# Altium schematic symbol library Comparator.SchLib: 62 symbols
Pins are listed as number, name and electrical type; pins without a type are passive.

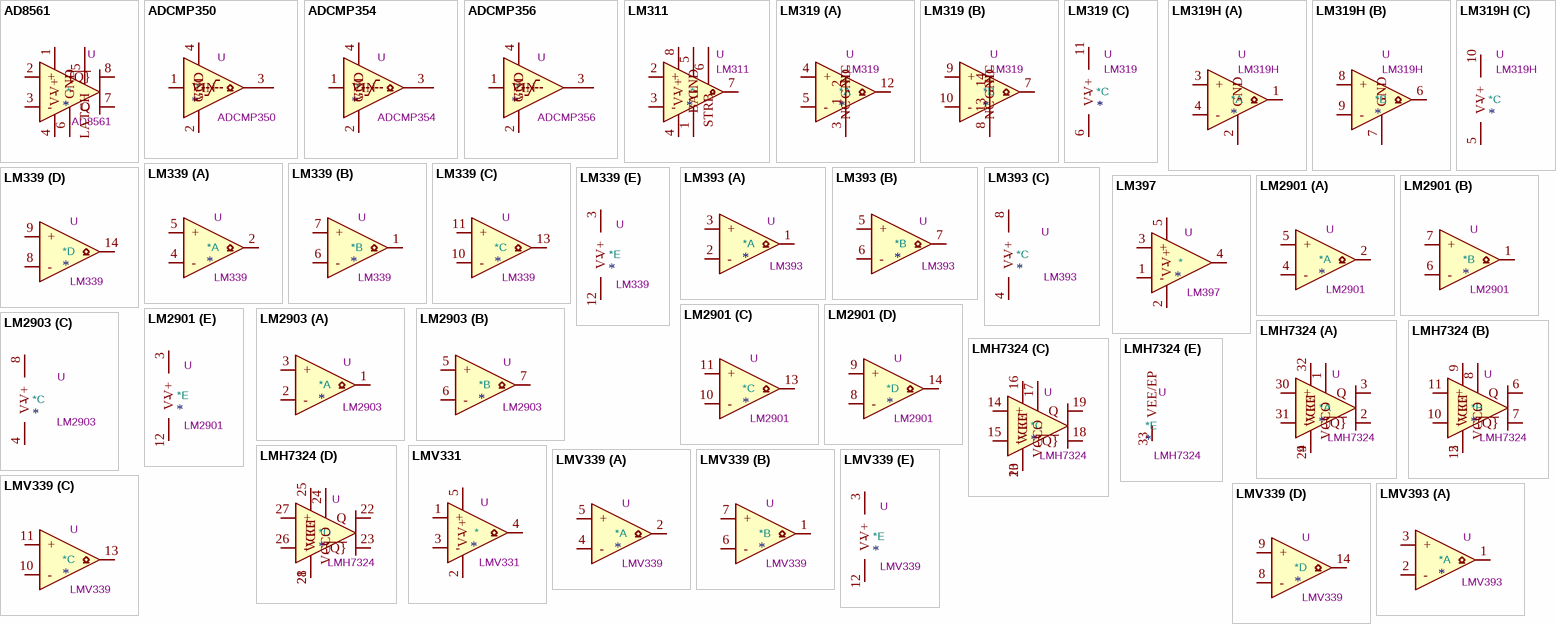
[diagram p0: symbols AD8561 to LMV393]

## AD8561
designator *  value AD8561  Reference: U
Ultrafast 7 ns Single Supply Comparator, DIP-8/SOIC-8/TSSOP-8; ki_keywords: cmp complementary push-pull; ki_fp_filters: SOIC*3.9x4.9mm*P1.27mm* TSSOP*4.4x3mm*P0.65mm* DIP*W7.62mm*; Datasheet: https://www.analog.com/media/en/technical-documentation/data-sheets/ad8561.pdf; Description_: Ultrafast 7 ns Single Supply Comparator, DIP-8/SOIC-8/TSSOP-8
pins: 1 V+, 2 +, 3 -, 4 V-, 5 LATCH, 6 GND, 7 Q, 8 ~{{Q}}

## ADCMP350
designator *  value ADCMP350  Reference: U
Single-input comparator, internal 0.6V reference, Active-Low Open-Drain output, KS-4; ki_keywords: cmp collector; ki_fp_filters: Analog*KS?4*; Footprint: Package_TO_SOT_SMD:Analog_KS-4; Datasheet: https://www.analog.com/media/en/technical-documentation/data-sheets/ADCMP350_354_356.pdf; Description_: Single-input comparator, internal 0.6V reference, Active-Low Open-Drain output, KS-4
pins: 1 VIN, 2 GND, 3, 4 VCC

## ADCMP354
designator *  value ADCMP354  Reference: U
Single-input comparator, internal 0.6V reference, Active-High Open-Drain output, KS-4; ki_keywords: cmp collector; ki_fp_filters: Analog*KS?4*; Footprint: Package_TO_SOT_SMD:Analog_KS-4; Datasheet: https://www.analog.com/media/en/technical-documentation/data-sheets/ADCMP350_354_356.pdf; Description_: Single-input comparator, internal 0.6V reference, Active-High Open-Drain output, KS-4
pins: 1 VIN, 2 GND, 3, 4 VCC

## ADCMP356
designator *  value ADCMP356  Reference: U
Single-input comparator, internal 0.6V reference, Active-High Push-Pull output, KS-4; ki_keywords: cmp; ki_fp_filters: Analog*KS?4*; Footprint: Package_TO_SOT_SMD:Analog_KS-4; Datasheet: https://www.analog.com/media/en/technical-documentation/data-sheets/ADCMP350_354_356.pdf; Description_: Single-input comparator, internal 0.6V reference, Active-High Push-Pull output, KS-4
pins: 1 VIN, 2 GND, 3, 4 VCC

## LM311
designator *  value LM311  Reference: U
Voltage Comparator, DIP-8/SOIC-8; ki_keywords: cmp open collector; ki_fp_filters: SOIC*3.9x4.9mm*P1.27mm* DIP*W7.62mm*; Datasheet: https://www.st.com/resource/en/datasheet/lm311.pdf; Description_: Voltage Comparator, DIP-8/SOIC-8
pins: 1 GND, 2 +, 3 -, 4 V-, 5 BAL, 6 STRB, 7, 8 V+

## LM319
designator *  value LM319  Reference: U
High Speed Dual Comparator, DIP-14/SOIC-14; ki_keywords: cmp open collector; ki_fp_filters: SOIC*3.9x8.7mm*P1.27mm* DIP*W7.62mm*; Datasheet: http://www.ti.com/lit/ds/symlink/lm319-n.pdf; Description_: High Speed Dual Comparator, DIP-14/SOIC-14
part A pins: 1 NC, 2 NC, 3 GND, 4 +, 5 -, 12
part B pins: 7, 8 GND, 9 +, 10 -, 13 NC, 14 NC
part C pins: 6 V-, 11 V+

## LM319H
designator *  value LM319H  Reference: U
High Speed Dual Comparator, TO-100-10; ki_keywords: cmp open collector; ki_fp_filters: TO?100*; Footprint: Package_TO_SOT_THT:TO-100-10; Datasheet: http://www.ti.com/lit/ds/symlink/lm319-n.pdf; Description_: High Speed Dual Comparator, TO-100-10
part A pins: 1, 2 GND, 3 +, 4 -
part B pins: 6, 7 GND, 8 +, 9 -
part C pins: 5 V-, 10 V+

## LM339
designator *  value LM339  Reference: U
Quad Differential Comparators, SOIC-14/TSSOP-14; ki_keywords: cmp open collector; ki_fp_filters: SOIC*3.9x8.7mm*P1.27mm* TSSOP*4.4x5mm*P0.65mm*; Datasheet: https://www.st.com/resource/en/datasheet/lm139.pdf; Description_: Quad Differential Comparators, SOIC-14/TSSOP-14
part A pins: 2, 4 -, 5 +
part B pins: 1, 6 -, 7 +
part C pins: 10 -, 11 +, 13
part D pins: 8 -, 9 +, 14
part E pins: 3 V+, 12 V-

## LM393
designator *  value LM393  Reference: U
Low-Power, Low-Offset Voltage, Dual Comparators, DIP-8/SOIC-8/TO-99-8; ki_keywords: cmp open collector; ki_fp_filters: SOIC*3.9x4.9mm*P1.27mm* DIP*W7.62mm* SOP*5.28x5.23mm*P1.27mm* VSSOP*3x3mm*P0.65mm* TSSOP*4.4x3mm*P0.65mm*; Datasheet: http://www.ti.com/lit/ds/symlink/lm393.pdf; Description_: Low-Power, Low-Offset Voltage, Dual Comparators, DIP-8/SOIC-8/TO-99-8
part A pins: 1, 2 -, 3 +
part B pins: 5 +, 6 -, 7
part C pins: 4 V-, 8 V+

## LM397
designator *  value LM397  Reference: U
Single General-Purpose Voltage Comparator with Open-Collector Output, SOT-23-5; ki_keywords: single comparator; ki_fp_filters: SOT?23*; Footprint: Package_TO_SOT_SMD:SOT-23-5; Datasheet: http://www.ti.com/lit/ds/symlink/lm397.pdf; Description_: Single General-Purpose Voltage Comparator with Open-Collector Output, SOT-23-5
pins: 1 -, 2 V-, 3 +, 4, 5 V+

## LM2901
designator *  value LM2901  Reference: U
Quad Differential Comparators, DIP-14/SOIC-14/TSSOP-14; ki_keywords: cmp open collector; ki_fp_filters: SOIC*3.9x8.7mm*P1.27mm* DIP*W7.62mm* TSSOP*4.4x5mm*P0.65mm*; Datasheet: https://www.st.com/resource/en/datasheet/lm2901.pdf; Description_: Quad Differential Comparators, DIP-14/SOIC-14/TSSOP-14
part A pins: 2, 4 -, 5 +
part B pins: 1, 6 -, 7 +
part C pins: 10 -, 11 +, 13
part D pins: 8 -, 9 +, 14
part E pins: 3 V+, 12 V-

## LM2903
designator *  value LM2903  Reference: U
Low-Power, Low-Offset Voltage, Dual Comparators, DIP-8/SOIC-8/SOP-8/TSSOP-8/VSSOP-8; ki_keywords: cmp open collector; ki_fp_filters: SOIC*3.9x4.9mm*P1.27mm* DIP*W7.62mm* SOP*5.28x5.23mm*P1.27mm* VSSOP*3x3mm*P0.65mm* TSSOP*4.4x3mm*P0.65mm*; Datasheet: http://www.ti.com/lit/ds/symlink/lm393.pdf; Description_: Low-Power, Low-Offset Voltage, Dual Comparators, DIP-8/SOIC-8/SOP-8/TSSOP-8/VSSOP-8
part A pins: 1, 2 -, 3 +
part B pins: 5 +, 6 -, 7
part C pins: 4 V-, 8 V+

## LMH7324
designator *  value LMH7324  Reference: U
Quad 700 ps High Speed Comparator with RSPECL Outputs, WQFN-32; ki_keywords: cmp push-pull complementary; ki_fp_filters: WQFN*1EP*5x5mm*P0.5mm*; Footprint: Package_DFN_QFN:WQFN-32-1EP_5x5mm_P0.5mm_EP3.1x3.1mm; Datasheet: http://www.ti.com/lit/ds/symlink/lmh7324.pdf; Description_: Quad 700 ps High Speed Comparator with RSPECL Outputs, WQFN-32
part A pins: 1 VCCO, 2 ~{{Q}}, 3 Q, 4 VEE, 29 VEE, 30 +, 31 -, 32 VCCI
part B pins: 5 VEE, 6 Q, 7 ~{{Q}}, 8 VCCO, 9 VCCI, 10 -, 11 +, 12 VEE
part C pins: 13 VEE, 14 +, 15 -, 16 VCCI, 17 VCCO, 18 ~{{Q}}, 19 Q, 20 VEE
part D pins: 21 VEE, 22 Q, 23 ~{{Q}}, 24 VCCO, 25 VCCI, 26 -, 27 +, 28 VEE
part E pins: 33 VEE/EP

## LMV331
designator *  value LMV331  Reference: U
Single General-Purpose Low-Voltage Comparator, SOT-23-5/SC-70-5; ki_keywords: single comparator; ki_fp_filters: SOT?23* *SC?70*; Datasheet: http://www.ti.com/lit/ds/symlink/lmv331.pdf; Description_: Single General-Purpose Low-Voltage Comparator, SOT-23-5/SC-70-5
pins: 1 +, 2 V-, 3 -, 4, 5 V+

## LMV339
designator *  value LMV339  Reference: U
Quad General-Purpose Low-Voltage Comparator, SOIC-14/TSSOP-14; ki_keywords: cmp open collector; ki_fp_filters: SOIC*3.9x8.7mm*P1.27mm* TSSOP*4.4x5mm*P0.65mm*; Datasheet: https://www.st.com/resource/en/datasheet/lmv331.pdf; Description_: Quad General-Purpose Low-Voltage Comparator, SOIC-14/TSSOP-14
part A pins: 2, 4 -, 5 +
part B pins: 1, 6 -, 7 +
part C pins: 10 -, 11 +, 13
part D pins: 8 -, 9 +, 14
part E pins: 3 V+, 12 V-

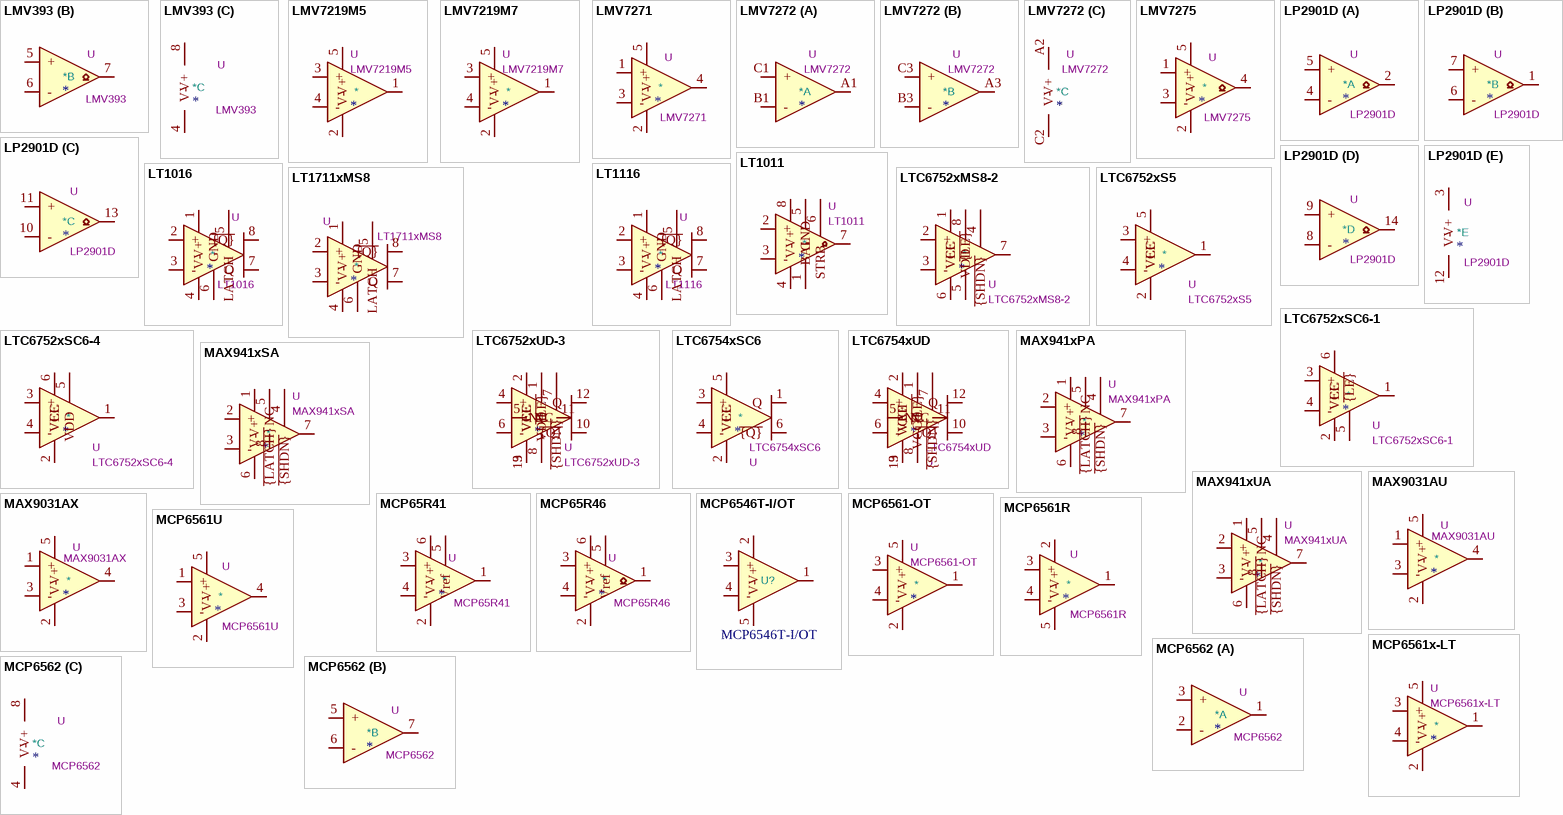
[diagram p1: symbols LMV393 to MCP6562]

## LMV393
designator *  value LMV393  Reference: U
Dual General-Purpose Low-Voltage Comparator, SOIC-8/TSSOP-8/VSSOP-8; ki_keywords: cmp open collector; ki_fp_filters: SOIC*3.9x4.9mm*P1.27mm* TSSOP*4.4x3mm*P0.65mm* VSSOP*3x3mm*P0.65mm* VSSOP*2.3x2mm*P0.5mm*; Datasheet: http://www.ti.com/lit/ds/symlink/lmv331.pdf; Description_: Dual General-Purpose Low-Voltage Comparator, SOIC-8/TSSOP-8/VSSOP-8
part A pins: 1, 2 -, 3 +
part B pins: 5 +, 6 -, 7
part C pins: 4 V-, 8 V+

## LMV7219M5
designator *  value LMV7219M5  Reference: U
Single Low-Power High-Speed Push-Pull Output Comparator, SOT-23-5; ki_keywords: cmp; ki_fp_filters: SOT?23*; Footprint: Package_TO_SOT_SMD:SOT-23-5; Datasheet: https://www.ti.com/lit/ds/symlink/lmv7219.pdf; Description_: Single Low-Power High-Speed Push-Pull Output Comparator, SOT-23-5
pins: 1, 2 V-, 3 +, 4 -, 5 V+

## LMV7219M7
designator *  value LMV7219M7  Reference: U
Single Low-Power High-Speed Push-Pull Output Comparator, SC-70-5; ki_keywords: cmp; ki_fp_filters: SOT?353*; Footprint: Package_TO_SOT_SMD:SOT-353_SC-70-5; Datasheet: https://www.ti.com/lit/ds/symlink/lmv7219.pdf; Description_: Single Low-Power High-Speed Push-Pull Output Comparator, SC-70-5
pins: 1, 2 V-, 3 +, 4 -, 5 V+

## LMV7271
designator *  value LMV7271  Reference: U
Single, 1.8V Low Power, Rail-to-Rail Input, Push-Pull Output Comparator, SOT-23-5/SC-70-5; ki_keywords: cmp; ki_fp_filters: SOT?23* *SC?70*; Datasheet: http://www.ti.com/lit/ds/symlink/lmv7271.pdf; Description_: Single, 1.8V Low Power, Rail-to-Rail Input, Push-Pull Output Comparator, SOT-23-5/SC-70-5
pins: 1 +, 2 V-, 3 -, 4, 5 V+

## LMV7272
designator *  value LMV7272  Reference: U
Dual, 1.8V Low Power, Rail-to-Rail Input, Push-Pull Output Comparator, DSBGA-8; ki_keywords: cmp; ki_fp_filters: Texas*DSBGA*1.5195x1.5195*Layout3x3*P0.5mm*; Footprint: Package_BGA:Texas_DSBGA-8_1.5195x1.5195mm_Layout3x3_P0.5mm; Datasheet: http://www.ti.com/lit/ds/symlink/lmv7272.pdf; Description_: Dual, 1.8V Low Power, Rail-to-Rail Input, Push-Pull Output Comparator, DSBGA-8
part A pins: A1, B1 -, C1 +
part B pins: A3, B3 -, C3 +
part C pins: A2 V+, C2 V-

## LMV7275
designator *  value LMV7275  Reference: U
Single, 1.8V Low Power, Rail-to-Rail Input, Open Collector Output Comparator, SOT-23-5/SC-70-5; ki_keywords: cmp; ki_fp_filters: SOT?23* *SC?70*; Datasheet: http://www.ti.com/lit/ds/symlink/lmv7275.pdf; Description_: Single, 1.8V Low Power, Rail-to-Rail Input, Open Collector Output Comparator, SOT-23-5/SC-70-5
pins: 1 +, 2 V-, 3 -, 4, 5 V+

## LP2901D
designator *  value LP2901D  Reference: U
Quad Differential Comparators, SOIC-14; ki_keywords: cmp open collector; ki_fp_filters: SOIC*3.9x8.7mm*P1.27mm*; Footprint: Package_SO:SOIC-14_3.9x8.7mm_P1.27mm; Datasheet: https://www.ti.com/lit/ds/symlink/lp2901.pdf; Description_: Quad Differential Comparators, SOIC-14
part A pins: 2, 4 -, 5 +
part B pins: 1, 6 -, 7 +
part C pins: 10 -, 11 +, 13
part D pins: 8 -, 9 +, 14
part E pins: 3 V+, 12 V-

## LT1011
designator *  value LT1011  Reference: U
Voltage Comparator, DIP-8/SOIC-8; ki_keywords: cmp open collector; ki_fp_filters: SOIC*3.9x4.9mm*P1.27mm* DIP*W7.62mm*; Datasheet: https://www.analog.com/media/en/technical-documentation/data-sheets/lt1011.pdf; Description_: Voltage Comparator, DIP-8/SOIC-8
pins: 1 GND, 2 +, 3 -, 4 V-, 5 BAL, 6 STRB, 7, 8 V+

## LT1016
designator *  value LT1016  Reference: U
Single UltraFast Precision 10ns Comparator, DIP-8/SOIC-8; ki_keywords: cmp push-pull complementary latch; ki_fp_filters: SOIC*3.9x4.9mm*P1.27mm* DIP*W7.62mm*; Datasheet: https://www.analog.com/media/en/technical-documentation/data-sheets/lt1016.pdf; Description_: Single UltraFast Precision 10ns Comparator, DIP-8/SOIC-8
pins: 1 V+, 2 +, 3 -, 4 V-, 5 LATCH, 6 GND, 7 Q, 8 ~{{Q}}

## LT1116
designator *  value LT1116  Reference: U
Single 12ns, Single Supply Ground-Sensing Comparator, DIP-8/SOIC-8; ki_keywords: cmp push-pull complementary latch; ki_fp_filters: SOIC*3.9x4.9mm*P1.27mm* DIP*W7.62mm*; Datasheet: https://www.analog.com/media/en/technical-documentation/data-sheets/1116fc.pdf; Description_: Single 12ns, Single Supply Ground-Sensing Comparator, DIP-8/SOIC-8
pins: 1 V+, 2 +, 3 -, 4 V-, 5 LATCH, 6 GND, 7 Q, 8 ~{{Q}}

## LT1711xMS8
designator *  value LT1711xMS8  Reference: U
Single ultrafast 4.5 ns rail-to-rail comparator, MSOP-8; ki_keywords: cmp latch push-pull complementary; ki_fp_filters: MSOP*3x3mm*P0.65mm*; Footprint: Package_SO:MSOP-8_3x3mm_P0.65mm; Datasheet: https://www.analog.com/media/en/technical-documentation/data-sheets/171112f.pdf; Description_: Single ultrafast 4.5 ns rail-to-rail comparator, MSOP-8
pins: 1 V+, 2 +, 3 -, 4 V-, 5 LATCH, 6 GND, 7 Q, 8 ~{{Q}}

## LTC6752xMS8-2
designator *  value LTC6752xMS8-2  Reference: U
Single 280Mhz 2.9ns Comparator, Rail-to-Rail Inputs, CMOS Output, MSOP-8; ki_keywords: single comparator high speed cmos; ki_fp_filters: MSOP*3x3mm*P0.65mm*; Footprint: Package_SO:MSOP-8_3x3mm_P0.65mm; Datasheet: https://www.analog.com/media/en/technical-documentation/data-sheets/6752fc.pdf; Description_: Single 280Mhz 2.9ns Comparator, Rail-to-Rail Inputs, CMOS Output, MSOP-8
pins: 1 VCC, 2 +, 3 -, 4 ~{{SHDN}}, 5 ~{{LE}}, 6 VEE, 7, 8 VDD

## LTC6752xS5
designator *  value LTC6752xS5  Reference: U
Single 280Mhz 2.9ns Comparator, Rail-to-Rail Inputs, CMOS Output, TSOT-23-5; ki_keywords: single comparator high speed cmos; ki_fp_filters: TSOT?23?5*; Footprint: Package_TO_SOT_SMD:TSOT-23-5; Datasheet: https://www.analog.com/media/en/technical-documentation/data-sheets/6752fc.pdf; Description_: Single 280Mhz 2.9ns Comparator, Rail-to-Rail Inputs, CMOS Output, TSOT-23-5
pins: 1, 2 VEE, 3 +, 4 -, 5 VCC

## LTC6752xSC6-1
designator *  value LTC6752xSC6-1  Reference: U
Single 280Mhz 2.9ns Comparator, Rail-to-Rail Inputs, CMOS Output, SC-70; ki_keywords: single comparator high speed cmos; ki_fp_filters: SOT?363*; Footprint: Package_TO_SOT_SMD:SOT-363_SC-70-6; Datasheet: https://www.analog.com/media/en/technical-documentation/data-sheets/6752fc.pdf; Description_: Single 280Mhz 2.9ns Comparator, Rail-to-Rail Inputs, CMOS Output, SC-70
pins: 1, 2 VEE, 3 +, 4 -, 5 ~{{LE}}, 6 VCC

## LTC6752xSC6-4
designator *  value LTC6752xSC6-4  Reference: U
Single 280Mhz 2.9ns Comparator, Rail-to-Rail Inputs, CMOS Output, SC-70; ki_keywords: single comparator high speed cmos; ki_fp_filters: SOT?363*; Footprint: Package_TO_SOT_SMD:SOT-363_SC-70-6; Datasheet: https://www.analog.com/media/en/technical-documentation/data-sheets/6752fc.pdf; Description_: Single 280Mhz 2.9ns Comparator, Rail-to-Rail Inputs, CMOS Output, SC-70
pins: 1, 2 VEE, 3 +, 4 -, 5 VDD, 6 VCC

## LTC6752xUD-3
designator *  value LTC6752xUD-3  Reference: U
Single 280Mhz 2.9ns Comparator, Rail-to-Rail Inputs, CMOS Output, QFN-12; ki_keywords: single comparator high speed cmos; ki_fp_filters: QFN*1EP*3x3mm*P0.5mm*; Footprint: Package_DFN_QFN:QFN-12-1EP_3x3mm_P0.5mm_EP1.65x1.65mm; Datasheet: https://www.analog.com/media/en/technical-documentation/data-sheets/6752fc.pdf; Description_: Single 280Mhz 2.9ns Comparator, Rail-to-Rail Inputs, CMOS Output, QFN-12
pins: 1 VDD, 2 VCC, 3 VEE, 4 +, 5 NC, 6 -, 7 ~{{SHDN}}, 8 ~{{LE}}, 9 VEE, 10 ~{{Q}}, 11 NC, 12 Q, 13 VEE

## LTC6754xSC6
designator *  value LTC6754xSC6  Reference: U
Single High Speed Rail-to-Rail Input Comparator with LVDS Compatible Outputs, SC-70-6; ki_keywords: cmp r2r rtr push-pull complementary; ki_fp_filters: *SC?70*; Footprint: Package_TO_SOT_SMD:SOT-363_SC-70-6; Datasheet: https://www.analog.com/media/en/technical-documentation/data-sheets/6754f.pdf; Description_: Single High Speed Rail-to-Rail Input Comparator with LVDS Compatible Outputs, SC-70-6
pins: 1 Q, 2 VEE, 3 +, 4 -, 5 VCC, 6 ~{{Q}}

## LTC6754xUD
designator *  value LTC6754xUD  Reference: U
Single High Speed Rail-to-Rail Input Comparator with LVDS Compatible Outputs, QFN-12; ki_keywords: cmp r2r rtr push-pull complementary; ki_fp_filters: QFN*1EP*3x3mm*P0.5mm*; Footprint: Package_DFN_QFN:QFN-12-1EP_3x3mm_P0.5mm_EP1.65x1.65mm; Datasheet: https://www.analog.com/media/en/technical-documentation/data-sheets/6754f.pdf; Description_: Single High Speed Rail-to-Rail Input Comparator with LVDS Compatible Outputs, QFN-12
pins: 1 VCCO, 2 VCCI, 3 VEE, 4 +, 5 NC, 6 -, 7 ~{{SHDN}}, 8 ~{{LE}}, 9 VEE, 10 ~{{Q}}, 11 NC, 12 Q, 13 VEE

## MAX941xPA
designator *  value MAX941xPA  Reference: U
High-Speed, Low-Power, 3V/5V, Rail-to-Rail, Single-Supply Comparator, PDIP-8; ki_keywords: single comparator; ki_fp_filters: DIP*W7.62mm*; Footprint: Package_DIP:DIP-8_W7.62mm; Datasheet: https://datasheets.maximintegrated.com/en/ds/MAX941-MAX944.pdf; Description_: High-Speed, Low-Power, 3V/5V, Rail-to-Rail, Single-Supply Comparator, PDIP-8
pins: 1 V+, 2 +, 3 -, 4 ~{{SHDN}}, 5 ~{{LATCH}}, 6 V-, 7, 8 NC

## MAX941xSA
designator *  value MAX941xSA  Reference: U
High-Speed, Low-Power, 3V/5V, Rail-to-Rail, Single-Supply Comparator, SOIC-8; ki_keywords: single comparator; ki_fp_filters: SOIC*3.9x4.9mm*P1.27mm*; Footprint: Package_SO:SOIC-8_3.9x4.9mm_P1.27mm; Datasheet: https://datasheets.maximintegrated.com/en/ds/MAX941-MAX944.pdf; Description_: High-Speed, Low-Power, 3V/5V, Rail-to-Rail, Single-Supply Comparator, SOIC-8
pins: 1 V+, 2 +, 3 -, 4 ~{{SHDN}}, 5 ~{{LATCH}}, 6 V-, 7, 8 NC

## MAX941xUA
designator *  value MAX941xUA  Reference: U
High-Speed, Low-Power, 3V/5V, Rail-to-Rail, Single-Supply Comparator, MSOP-8; ki_keywords: single comparator; ki_fp_filters: MSOP*3x3mm*P0.65mm*; Footprint: Package_SO:MSOP-8_3x3mm_P0.65mm; Datasheet: https://datasheets.maximintegrated.com/en/ds/MAX941-MAX944.pdf; Description_: High-Speed, Low-Power, 3V/5V, Rail-to-Rail, Single-Supply Comparator, MSOP-8
pins: 1 V+, 2 +, 3 -, 4 ~{{SHDN}}, 5 ~{{LATCH}}, 6 V-, 7, 8 NC

## MAX9031AU
designator *  value MAX9031AU  Reference: U
Single, Rail to Rail, 2.5V - 5.5V Supply, 571mW, SOT-23-5; ki_keywords: rail-rail; ki_fp_filters: *SOT?23*; Footprint: Package_TO_SOT_SMD:SOT-23-5; Datasheet: https://datasheets.maximintegrated.com/en/ds/MAX9030-MAX9034.pdf; Description_: Single, Rail to Rail, 2.5V - 5.5V Supply, 571mW, SOT-23-5
pins: 1 +, 2 V-, 3 -, 4, 5 V+

## MAX9031AX
designator *  value MAX9031AX  Reference: U
Single, Rail to Rail, 2.5V - 5.5V Supply, 247mW, SC70; ki_keywords: rail-rail; ki_fp_filters: *SC?70*; Footprint: Package_TO_SOT_SMD:SOT-353_SC-70-5; Datasheet: https://datasheets.maximintegrated.com/en/ds/MAX9030-MAX9034.pdf; Description_: Single, Rail to Rail, 2.5V - 5.5V Supply, 247mW, SC70
pins: 1 +, 2 V-, 3 -, 4, 5 V+

## MCP65R41
designator *  value MCP65R41  Reference: U
3 μA Comparator with Integrated Reference Voltage, SOT-23-6; ki_keywords: cmp reference; ki_fp_filters: SOT?23*; Footprint: Package_TO_SOT_SMD:SOT-23-6; Datasheet: http://ww1.microchip.com/downloads/en/DeviceDoc/22269B.pdf; Description_: 3 μA Comparator with Integrated Reference Voltage, SOT-23-6
pins: 1, 2 V-, 3 +, 4 -, 5 Vref, 6 V+

## MCP65R46
designator *  value MCP65R46  Reference: U
3 μA Comparator with Integrated Reference Voltage, SOT-23-6; ki_keywords: cmp reference open collector drain; ki_fp_filters: SOT?23*; Footprint: Package_TO_SOT_SMD:SOT-23-6; Datasheet: http://ww1.microchip.com/downloads/en/DeviceDoc/22269B.pdf; Description_: 3 μA Comparator with Integrated Reference Voltage, SOT-23-6
pins: 1, 2 V-, 3 +, 4 -, 5 Vref, 6 V+

## MCP6546T-I/OT
designator U?  value MCP6546T-I/OT  (hidden comment: *)
Open-Drain Output Sub-Microamp ComparatorsOutput, SOT-23-5; Manufacturer: Microchip; Manufacturer Lifecycle Status: REL; Description_: Single Differential Comparator with Open-Collector Output, SOT-23-5; ki_keywords: single comparator; ki_fp_filters: SOT?23*; Reference: U; Common Mode Rejection Ratio: 70dB; Hysteresis: 6.5mV; Input Bias Current: 1pA; Input Offset Voltage (Vos): 7mV; Max Supply Current: 1µA; Max Supply Voltage: 5.5V; Min Supply Voltage: 1.6V; Natural Thermal Resistance: 256°C/W; Number of Channels: 1; Output Current per Channel: 2mA; Output Type: TTL; Power Supply Rejection Ratio (PSRR): 80dB; Propagation Delay: 8µs; Response Time: 4µs; Footprint: Package_TO_SOT_SMD:SOT-23-5; DNP: *; Category: Comparators; Country of Assembly: Thailand; Country of Fabrication: United States of America; Country of Origin: Thailand; Export Control Classification Number (ECCN) Code: EAR99; Harmonized Tariff Schedule (HTS) Code: 8542.33.0001; Height: 1.3mm; HS Code: 8542.33.0001; Introduction Date: 2002-12-26; Lead Free: Lead Free; Length: 3.1mm; Lifecycle Status: Production; Manufacturer Part Number: MCP6546T-I/OT; Max Input Current: 1pA; Max Operating Temperature: 85°C; Min Operating Temperature: -40°C; Mounting Technology: Surface Mount; Nominal Supply Current: 1µA; Number of Elements: 1; Pins: 5; Projected EOL Date: 2034-12-26; Quiescent Current: 1µA; RoHS: Compliant; Schedule B: 8542330000, 8542330000|8542330000|8542330000|8542330000|8542330000|8542330000|8542330000|8542330000|8542330000|8542330000|8542330000|8542330000|8542330000|8542330000|8542330000|8542330000|8542330000|8542330000|8542330000|8542330000|8542330000|8542330000|8542330000|85; Type: General Purpose; Width: 1.8mm; Supplier 1: Mouser; Supplier Part Number 1: 579-MCP6546T-I/OT; Supplier Packaging 1: Tape & Reel; Supplier Unit Price 1: $0.39; Supplier Location 1: US
footprint SOT-23-5
pins: 1, 2 V+, 3 +, 4 -, 5 V-

## MCP6561-OT
designator *  value MCP6561-OT  Reference: U
Single 1.8V Low-Power Push-Pull Output Comparator, SOT-23-5; ki_keywords: cmp; ki_fp_filters: SOT?23*; Footprint: Package_TO_SOT_SMD:SOT-23-5; Datasheet: http://ww1.microchip.com/downloads/en/DeviceDoc/MCP6561-1R-1U-2-4-1.8V-Low-Power-Push-Pull-Output-Comparator-DS20002139E.pdf; Description_: Single 1.8V Low-Power Push-Pull Output Comparator, SOT-23-5
pins: 1, 2 V-, 3 +, 4 -, 5 V+

## MCP6561R
designator *  value MCP6561R  Reference: U
Single 1.8V Low-Power Push-Pull Output Comparator, SOT-23-5; ki_keywords: cmp; ki_fp_filters: SOT?23*; Footprint: Package_TO_SOT_SMD:SOT-23-5; Datasheet: http://ww1.microchip.com/downloads/en/DeviceDoc/MCP6561-1R-1U-2-4-1.8V-Low-Power-Push-Pull-Output-Comparator-DS20002139E.pdf; Description_: Single 1.8V Low-Power Push-Pull Output Comparator, SOT-23-5
pins: 1, 2 V+, 3 +, 4 -, 5 V-

## MCP6561U
designator *  value MCP6561U  Reference: U
Single 1.8V Low-Power Push-Pull Output Comparator, SOT-23-5; ki_keywords: cmp; ki_fp_filters: SOT?23*; Footprint: Package_TO_SOT_SMD:SOT-23-5; Datasheet: http://ww1.microchip.com/downloads/en/DeviceDoc/MCP6561-1R-1U-2-4-1.8V-Low-Power-Push-Pull-Output-Comparator-DS20002139E.pdf; Description_: Single 1.8V Low-Power Push-Pull Output Comparator, SOT-23-5
pins: 1 +, 2 V-, 3 -, 4, 5 V+

## MCP6561x-LT
designator *  value MCP6561x-LT  Reference: U
Single 1.8V Low-Power Push-Pull Output Comparator, SC-70-5; ki_keywords: cmp; ki_fp_filters: SOT?353*; Footprint: Package_TO_SOT_SMD:SOT-353_SC-70-5; Datasheet: http://ww1.microchip.com/downloads/en/DeviceDoc/MCP6561-1R-1U-2-4-1.8V-Low-Power-Push-Pull-Output-Comparator-DS20002139E.pdf; Description_: Single 1.8V Low-Power Push-Pull Output Comparator, SC-70-5
pins: 1, 2 V-, 3 +, 4 -, 5 V+

## MCP6562
designator *  value MCP6562  Reference: U
Dual 1.8V Low-Power Push-Pull Output Comparator, SOIC-8/MSOP-8; ki_keywords: cmp; ki_fp_filters: SOIC*3.9x4.9mm*P1.27mm* MSOP*3x3mm*P0.65mm*; Datasheet: http://ww1.microchip.com/downloads/en/DeviceDoc/MCP6561-1R-1U-2-4-1.8V-Low-Power-Push-Pull-Output-Comparator-DS20002139E.pdf; Description_: Dual 1.8V Low-Power Push-Pull Output Comparator, SOIC-8/MSOP-8
part A pins: 1, 2 -, 3 +
part B pins: 5 +, 6 -, 7
part C pins: 4 V-, 8 V+

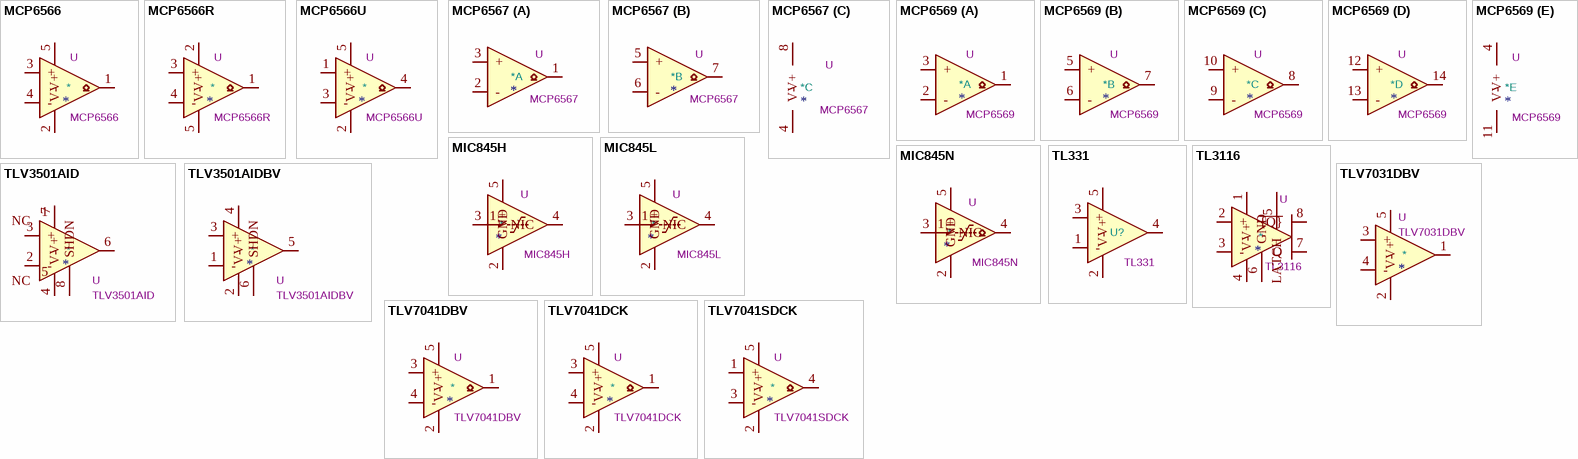
[diagram p2: symbols MCP6566 to TLV7041SDCK]

## MCP6566
designator *  value MCP6566  Reference: U
Single 1.8V Low-Power Open-Drain Output Comparator, SOT-23-5/SC-70; ki_keywords: cmp collector; ki_fp_filters: SOT?23* *SC*70*; Datasheet: http://ww1.microchip.com/downloads/en/DeviceDoc/MCP6566-6R-6U-7-9-1.8V-Low-Power-Open-Drain-Output-Comparator-DS20002143G.pdf; Description_: Single 1.8V Low-Power Open-Drain Output Comparator, SOT-23-5/SC-70
pins: 1, 2 V-, 3 +, 4 -, 5 V+

## MCP6566R
designator *  value MCP6566R  Reference: U
Single 1.8V Low-Power Open-Drain Output Comparator, SOT-23-5; ki_keywords: cmp collector; ki_fp_filters: SOT?23*; Footprint: Package_TO_SOT_SMD:SOT-23-5; Datasheet: http://ww1.microchip.com/downloads/en/DeviceDoc/MCP6566-6R-6U-7-9-1.8V-Low-Power-Open-Drain-Output-Comparator-DS20002143G.pdf; Description_: Single 1.8V Low-Power Open-Drain Output Comparator, SOT-23-5
pins: 1, 2 V+, 3 +, 4 -, 5 V-

## MCP6566U
designator *  value MCP6566U  Reference: U
Single 1.8V Low-Power Open-Drain Output Comparator, SOT-23-5; ki_keywords: cmp collector; ki_fp_filters: SOT?23*; Footprint: Package_TO_SOT_SMD:SOT-23-5; Datasheet: http://ww1.microchip.com/downloads/en/DeviceDoc/MCP6566-6R-6U-7-9-1.8V-Low-Power-Open-Drain-Output-Comparator-DS20002143G.pdf; Description_: Single 1.8V Low-Power Open-Drain Output Comparator, SOT-23-5
pins: 1 +, 2 V-, 3 -, 4, 5 V+

## MCP6567
designator *  value MCP6567  Reference: U
Dual 1.8V Low-Power Open-Drain Output Comparator, SOIC-8/MSOP-8; ki_keywords: cmp collector; ki_fp_filters: SOIC*3.9x4.9mm*P1.27mm* MSOP*3x3mm*P0.65mm*; Datasheet: http://ww1.microchip.com/downloads/en/DeviceDoc/MCP6566-6R-6U-7-9-1.8V-Low-Power-Open-Drain-Output-Comparator-DS20002143G.pdf; Description_: Dual 1.8V Low-Power Open-Drain Output Comparator, SOIC-8/MSOP-8
part A pins: 1, 2 -, 3 +
part B pins: 5 +, 6 -, 7
part C pins: 4 V-, 8 V+

## MCP6569
designator *  value MCP6569  Reference: U
Quad 1.8V Low-Power Open-Drain Output Comparator, SOIC-14/TSSOP-14; ki_keywords: cmp collector; ki_fp_filters: SOIC*3.9x8.7mm*P1.27mm* TSSOP*4.4x5mm*P0.65mm*; Datasheet: http://ww1.microchip.com/downloads/en/DeviceDoc/MCP6566-6R-6U-7-9-1.8V-Low-Power-Open-Drain-Output-Comparator-DS20002143G.pdf; Description_: Quad 1.8V Low-Power Open-Drain Output Comparator, SOIC-14/TSSOP-14
part A pins: 1, 2 -, 3 +
part B pins: 5 +, 6 -, 7
part C pins: 8, 9 -, 10 +
part D pins: 12 +, 13 -, 14
part E pins: 4 V+, 11 V-

## MIC845H
designator *  value MIC845H  Reference: U
Micro-Power Comparator / Battery Monitor, Active-High Push-Pull Output, SC-70-5; ki_keywords: single cmp; ki_fp_filters: *SC?70*; Footprint: Package_TO_SOT_SMD:SOT-353_SC-70-5; Datasheet: http://ww1.microchip.com/downloads/en/DeviceDoc/mic845.pdf; Description_: Micro-Power Comparator / Battery Monitor, Active-High Push-Pull Output, SC-70-5
pins: 1 NIC, 2 GND, 3 +, 4, 5 V+

## MIC845L
designator *  value MIC845L  Reference: U
Micro-Power Comparator / Battery Monitor, Active-Low Push-Pull Output, SC-70-5; ki_keywords: single cmp; ki_fp_filters: *SC?70*; Footprint: Package_TO_SOT_SMD:SOT-353_SC-70-5; Datasheet: http://ww1.microchip.com/downloads/en/DeviceDoc/mic845.pdf; Description_: Micro-Power Comparator / Battery Monitor, Active-Low Push-Pull Output, SC-70-5
pins: 1 NIC, 2 GND, 3 +, 4, 5 V+

## MIC845N
designator *  value MIC845N  Reference: U
Micro-Power Comparator / Battery Monitor, Active-High Open-Drain Output, SC-70-5; ki_keywords: single cmp collector; ki_fp_filters: *SC?70*; Footprint: Package_TO_SOT_SMD:SOT-353_SC-70-5; Datasheet: http://ww1.microchip.com/downloads/en/DeviceDoc/mic845.pdf; Description_: Micro-Power Comparator / Battery Monitor, Active-High Open-Drain Output, SC-70-5
pins: 1 NIC, 2 GND, 3 +, 4, 5 V+

## TL331
designator U?  value TL331  (hidden comment: *)
Single Differential Comparator with Open-Collector Output, SOT-23-5; Manufacturer: onsemi; Manufacturer Lifecycle Status: ACTIVE; Manufacturer Part Number: TL331VSN4T1G; ki_keywords: single comparator; ki_fp_filters: SOT?23*; Reference: U; Input Bias Current: 250nA; Input Offset Voltage (Vos): 9mV; Max Supply Current: 1.25mA; Max Supply Voltage: 36V; Nominal Supply Voltage (DC): 5V; Number of Circuits: 1; Response Time: 850ns; Footprint: Package_TO_SOT_SMD:SOT-23-5; Datasheet: http://www.ti.com/lit/ds/symlink/tl331.pdf; Description_: Single Differential Comparator with Open-Collector Output, SOT-23-5; DNP: *; Case/Package: TSOP; Category: Comparators; China RoHS: Compliant; Export Control Classification Number (ECCN) Code: EAR99; Harmonized Tariff Schedule (HTS) Code: 8542.39.00.60; Height - Seated (Max): 1.1mm; Introduction Date: 2022-09-26; Length: 3mm; Lifecycle Status: Production; Max Operating Temperature: 125°C; Min Operating Temperature: -40°C; Number of Terminals: 5; Ratings: AEC-Q100; REACH SVHC: Yes; RoHS: Compliant; Terminal Pitch: 950µm; Width: 1.5mm; Supplier 1: Mouser; Supplier Part Number 1: 863-TL331VSN4T1G; Supplier Packaging 1: Tape & Reel; Supplier Unit Price 1: $0.20; Supplier Location 1: US
footprint SOT-23-5
pins: 1 -, 2 V-, 3 +, 4, 5 V+

## TL3116
designator *  value TL3116  Reference: U
Single Ultra-Fast Low-Power Precision Comparators, SOIC-8/TSSOP-8; ki_keywords: cmp push-pull complementary; ki_fp_filters: SOIC*3.9x4.9mm*P1.27mm* TSSOP*4.4x3mm*P0.65mm*; Datasheet: http://www.ti.com/lit/ds/symlink/tl3116.pdf; Description_: Single Ultra-Fast Low-Power Precision Comparators, SOIC-8/TSSOP-8
pins: 1 V+, 2 +, 3 -, 4 V-, 5 LATCH, 6 GND, 7 Q, 8 ~{{Q}}

## TLV3501AID
designator *  value TLV3501AID  Reference: U
High-Speed Comparator, 4.5-ns, Rail-to-Rail, Push-Pull CMOS Output, SOIC-8; ki_keywords: single comparator high speed cmos; ki_fp_filters: SOIC*3.9x4.9mm?P1.27mm*; Footprint: Package_SO:SOIC-8_3.9x4.9mm_P1.27mm; Datasheet: https://www.ti.com/lit/ds/symlink/tlv3501.pdf; Description_: High-Speed Comparator, 4.5-ns, Rail-to-Rail, Push-Pull CMOS Output, SOIC-8
pins: 1 NC, 2 -, 3 +, 4 V-, 5 NC, 6, 7 V+, 8 SHDN

## TLV3501AIDBV
designator *  value TLV3501AIDBV  Reference: U
High-Speed Comparator, 4.5-ns, Rail-to-Rail, Push-Pull CMOS Output, SOT-23-6; ki_keywords: single comparator high speed cmos; ki_fp_filters: SOT?23*; Footprint: Package_TO_SOT_SMD:SOT-23-6; Datasheet: https://www.ti.com/lit/ds/symlink/tlv3501.pdf; Description_: High-Speed Comparator, 4.5-ns, Rail-to-Rail, Push-Pull CMOS Output, SOT-23-6
pins: 1 -, 2 V-, 3 +, 4 V+, 5, 6 SHDN

## TLV7031DBV
designator *  value TLV7031DBV  Reference: U
Single, 1.6V-6.5V, 315nA Quiescent, Push-Pull Output, Comparator, SOT-23-5/SC-70; ki_keywords: cmp; ki_fp_filters: SOT?23*; Footprint: Package_TO_SOT_SMD:SOT-23-5; Datasheet: https://www.ti.com/lit/ds/symlink/tlv7031.pdf; Description_: Single, 1.6V-6.5V, 315nA Quiescent, Push-Pull Output, Comparator, SOT-23-5/SC-70
pins: 1, 2 V-, 3 +, 4 -, 5 V+

## TLV7041DBV
designator *  value TLV7041DBV  Reference: U
Single, 1.6V-6.5V, 315nA Quiescent, Open-Drain Output, Comparator, North-west pinout, SOT-23-5; ki_keywords: cmp collector; ki_fp_filters: SOT?23*; Footprint: Package_TO_SOT_SMD:SOT-23-5; Datasheet: https://www.ti.com/lit/ds/symlink/tlv7041.pdf; Description_: Single, 1.6V-6.5V, 315nA Quiescent, Open-Drain Output, Comparator, North-west pinout, SOT-23-5
pins: 1, 2 V-, 3 +, 4 -, 5 V+

## TLV7041DCK
designator *  value TLV7041DCK  Reference: U
Single, 1.6V-6.5V, 315nA Quiescent, Open-Drain Output, Comparator, North-west pinout, SC-70; ki_keywords: cmp collector; ki_fp_filters: *SC*70*; Footprint: Package_TO_SOT_SMD:SOT-353_SC-70-5; Datasheet: https://www.ti.com/lit/ds/symlink/tlv7041.pdf; Description_: Single, 1.6V-6.5V, 315nA Quiescent, Open-Drain Output, Comparator, North-west pinout, SC-70
pins: 1, 2 V-, 3 +, 4 -, 5 V+

## TLV7041SDCK
designator *  value TLV7041SDCK  Reference: U
Single, 1.6V-6.5V, 315nA Quiescent, Open-Drain Output, Comparator, South-east pinout, SC-70; ki_keywords: cmp collector; ki_fp_filters: *SC*70*; Footprint: Package_TO_SOT_SMD:SOT-353_SC-70-5; Datasheet: https://www.ti.com/lit/ds/symlink/tlv7041.pdf; Description_: Single, 1.6V-6.5V, 315nA Quiescent, Open-Drain Output, Comparator, South-east pinout, SC-70
pins: 1 +, 2 V-, 3 -, 4, 5 V+